# EAGLE library part LCD-16X2-MIN (library SparkFun-Displays)
RGB 16x2 parallel input LCD, 4bit only Basic 16 character by 2 line display. Typically utilizes the extremely common HD44780 parallel interface chipset SparkFun Products: Basic 16x2 RGB <https://www.sparkfun.com/products/10862>
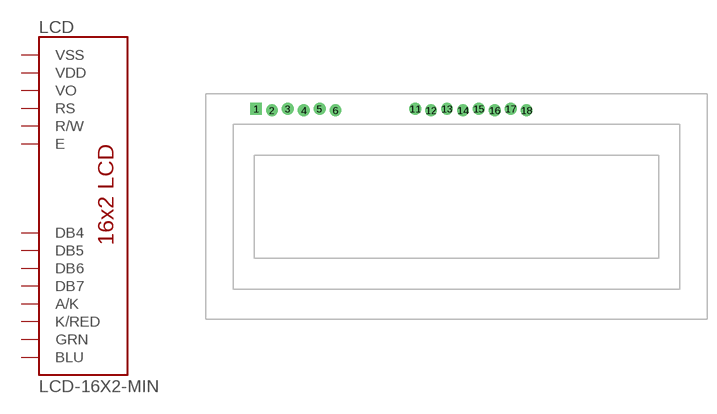
[diagram p3: symbol with the pads of LCD-16X2_NOSILK-KIT-4BIT; footprint LCD-16X2_NOSILK-KIT-4BIT]

Designator prefix LCD

## LCD-16X2-MINMIN4-RGB (SF_ID: LCD-10862)  [LCD-16X2_NOSILK-KIT-4BIT]
1  VSS  pwr
2  VDD  pwr
3  VO
4  RS  in
5  R/W  in
6  E  in
11  DB4
12  DB5
13  DB6
14  DB7
15  A/K  pwr
16  K/RED  pwr
17  GRN  pwr
18  BLU  pwr

## Footprint LCD-16X2_NOSILK-KIT-4BIT (pad centres in mm)
LCD-16x2, 4 bit for Kits For Standard hitatchi type LCDs with backlight. Has a gapped 16-pin connection and outline on docu, but no silk or mounting holes. Warning: This is the kit version of the part, so SIL holes are staggered. Specifications: Pin count: 12 Pin pitch: 0.1" Area: Datasheet referenced for footprint: Example device(s): Basic 16x2 LCD <https://www.sparkfun.com/products/255>
drill 1.016 pad 1.88 square: 1 -32,15.627
drill 1.016 pad 1.88: 2 -29.46,15.373; 3 -26.92,15.627; 4 -24.38,15.373; 5 -21.84,15.627; 6 -19.3,15.373; 11 -6.6,15.627; 12 -4.06,15.373; 13 -1.52,15.627; 14 1.02,15.373; 15 3.56,15.627; 16 6.1,15.373; 17 8.64,15.627; 18 11.18,15.373